# EAGLE library part CD4015BM96 (library FSAE Eletric)
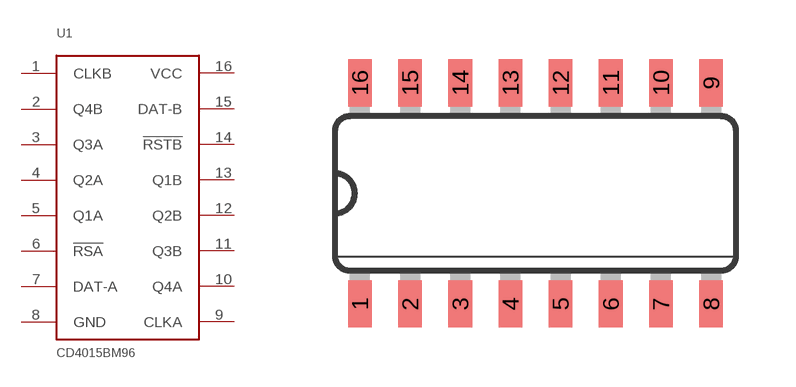
[diagram p2: symbol with the pads of SO-16; footprint SO-16]

Designator prefix U1

## CD4015BM96  [SO-16]
1  CLKB
2  Q4B
3  Q3A
4  Q2A
5  Q1A
6  !RSA
7  DAT-A
8  GND
9  CLKA
10  Q4A
11  Q3B
12  Q2B
13  Q1B
14  !RSTB
15  DAT-B
16  VCC

## Footprint SO-16 (pad centres in mm)
smd 0.6 x 1.2: 1 -4.445,-2.8; 2 -3.175,-2.8; 3 -1.905,-2.8; 4 -0.635,-2.8; 5 0.635,-2.8; 6 1.905,-2.8; 7 3.175,-2.8; 8 4.445,-2.8; 9 4.445,2.8; 10 3.175,2.8; 11 1.905,2.8; 12 0.635,2.8; 13 -0.635,2.8; 14 -1.905,2.8; 15 -3.175,2.8; 16 -4.445,2.8